# EAGLE library part 73M2901CE (library Teridian)
73M2901CE Modem with worldwide CID & CIDCW V.22bis Single Chip Modem, 3.3V. Surface mount TQFP package, 0.8mm pitch. Backward compatible with 73M2901CL. Specifications <http://www.teridian.com/products/product_detail.cfm?product_key=58#Datasheets> (right click, copy link, paste into web browser address bar) Library by RGM Enterprises, RGME@RGMEusa.com and with kind technical help from David Pollum, Ing. J.M. Rafetseder, Grzegorz Zalot and others in the Eagle Technical Support newsgroup <news://news.cadsoft.de/eagle.support.eng>
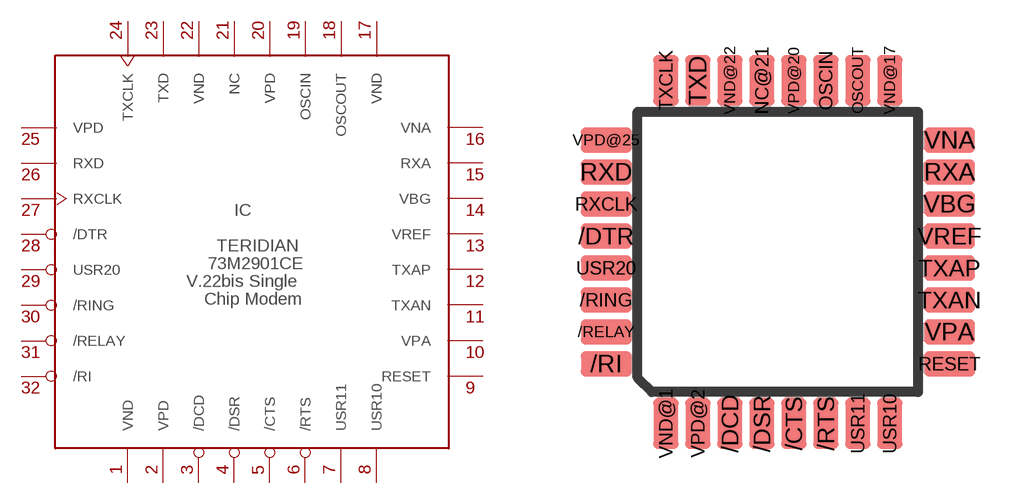
[diagram p0: symbol with the pads of 73M2901CE-IGV; footprint 73M2901CE-IGV]

Designator prefix IC

## 73M2901CETQFP32  [73M2901CE-IGV]
/CTS  /CTS  out
/DCD  /DCD  out
/DSR  /DSR  out
/DTR  /DTR  in
/RELAY  /RELAY  out
/RI  /RI  out
/RING  /RING  in
/RTS  /RTS  in
NC@21  NC
OSCIN  OSCIN  in
OSCOUT  OSCOUT  out
RESET  RESET  in
RXA  RXA  in
RXCLK  RXCLK  out
RXD  RXD  out
TXAN  TXAN  out
TXAP  TXAP  out
TXCLK  TXCLK  out
TXD  TXD  in
USR10  USR10
USR11  USR11
USR20  USR20
VBG  VBG  out
VNA  VNA  in
VND@1  VND  in
VND@17  VND  in
VND@22  VND  in
VPA  VPA  in
VPD@2  VPD  in
VPD@20  VPD  in
VPD@25  VPD  in
VREF  VREF  out

## Footprint 73M2901CE-IGV (pad centres in mm)
3.3V, 32-Pins, TQFP Package 0.80mm pitch. Grid 0.4mm/1/0.1mm. Available 2008 in single units from Mouser <http://www.mouser.com/search/refine.aspx?Ntk=P_MarCom&Ntt=144891997&utm_source=supplier&utm_medium=featured+spotlight&utm_campaign=144891997>.
smd 0.64 x 1.28: /CTS 0.4,-4.293; /DCD -1.2,-4.293; /DSR -0.4,-4.293; /RTS 1.2,-4.293; NC@21 -0.4,4.293; OSCIN 1.2,4.293; OSCOUT 2,4.293; TXCLK -2.8,4.293; TXD -2,4.293; USR10 2.8,-4.293; USR11 2,-4.293; VND@1 -2.8,-4.293; VND@17 2.8,4.293; VND@22 -1.2,4.293; VPD@2 -2,-4.293; VPD@20 0.4,4.293
smd 1.28 x 0.64: /DTR -4.293,0.4; /RELAY -4.293,-2; /RI -4.293,-2.8; /RING -4.293,-1.2; RESET 4.293,-2.8; RXA 4.293,2; RXCLK -4.293,1.2; RXD -4.293,2; TXAN 4.293,-1.2; TXAP 4.293,-0.4; USR20 -4.293,-0.4; VBG 4.293,1.2; VNA 4.293,2.8; VPA 4.293,-2; VPD@25 -4.293,2.8; VREF 4.293,0.4